# EAGLE library part ATXMEGA32E5 (library Atmel)
Atmel® AVR® XMEGA® 32E5 8/16-Bit Microcontroller XMEGA® E Series Manual <http://www.atmel.com/Images/Atmel-42005-8-and-16-bit-AVR-Microcontrollers-XMEGA-E_Manual.pdf> ATxmega32E5/16E5/8E5 Complete Datasheet <http://www.atmel.com/Images/Atmel-8153-8-and-16-bit-AVR-Microcontroller-XMEGA-E-ATxmega8E5-ATxmega16E5-ATxmega32E5_Datasheet.pdf> XMEGA® E Series Schematic Checklist <http://www.atmel.com/Images/Atmel-42087-XMEGA-E-Schematic-Checklist_Application-Note_AT01080.pdf> TQFP32A Variant corresponds to the ATXMega32E5-AN Part Number
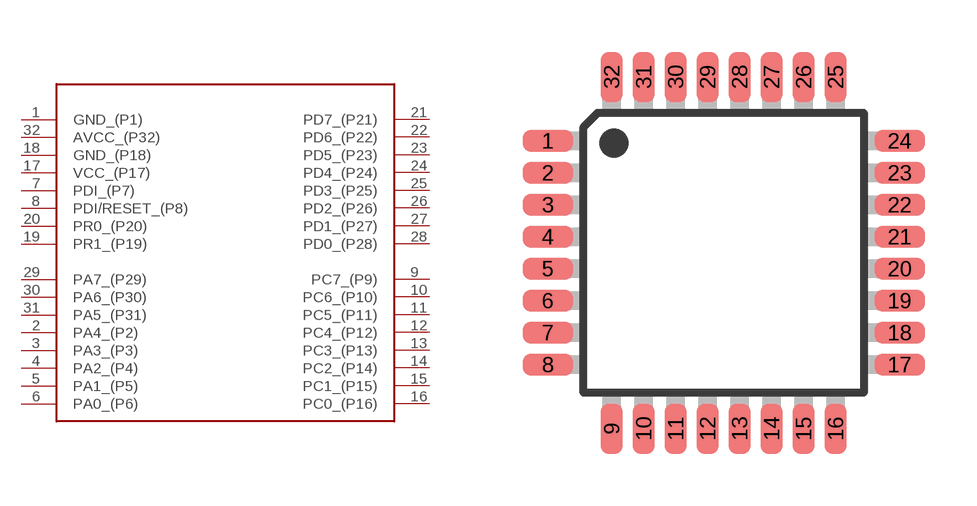
[diagram p4: symbol with the pads of TQFP32A; footprint TQFP32A]

Designator prefix -

## ATXMEGA32E5  [TQFP32A]
1  GND_(P1)
2  PA4_(P2)
3  PA3_(P3)
4  PA2_(P4)
5  PA1_(P5)
6  PA0_(P6)
7  PDI_(P7)
8  PDI/RESET_(P8)
9  PC7_(P9)
10  PC6_(P10)
11  PC5_(P11)
12  PC4_(P12)
13  PC3_(P13)
14  PC2_(P14)
15  PC1_(P15)
16  PC0_(P16)
17  VCC_(P17)
18  GND_(P18)
19  PR1_(P19)
20  PR0_(P20)
21  PD7_(P21)
22  PD6_(P22)
23  PD5_(P23)
24  PD4_(P24)
25  PD3_(P25)
26  PD2_(P26)
27  PD1_(P27)
28  PD0_(P28)
29  PA7_(P29)
30  PA6_(P30)
31  PA5_(P31)
32  AVCC_(P32)

## Footprint TQFP32A (pad centres in mm)
Thin Plasic Quad Flat Package 0.8 mm pitch
smd 1.27 x 0.559: 1 -4.4,2.8; 2 -4.4,2; 3 -4.4,1.2; 4 -4.4,0.4; 5 -4.4,-0.4; 6 -4.4,-1.2; 7 -4.4,-2; 8 -4.4,-2.8; 17 4.4,-2.8; 18 4.4,-2; 19 4.4,-1.2; 20 4.4,-0.4; 21 4.4,0.4; 22 4.4,1.2; 23 4.4,2; 24 4.4,2.8
smd 0.559 x 1.27: 9 -2.8,-4.4; 10 -2,-4.4; 11 -1.2,-4.4; 12 -0.4,-4.4; 13 0.4,-4.4; 14 1.2,-4.4; 15 2,-4.4; 16 2.8,-4.4; 25 2.8,4.4; 26 2,4.4; 27 1.2,4.4; 28 0.4,4.4; 29 -0.4,4.4; 30 -1.2,4.4; 31 -2,4.4; 32 -2.8,4.4